# Altium schematic symbol library SSW-116-01-L-S.SchLib: 1 symbol
Pins are listed as number, name and electrical type; pins without a type are passive.

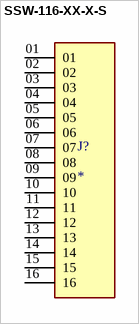
[diagram p0: symbol SSW-116-XX-X-S]

## SSW-116-XX-X-S
designator J?
MP: SSW-116-XX-X-S; MF: {'manufacturer': u'Samtec'}; Value: *; Package: None; Price: None; Availability: Unavailable
footprint SAMTEC_SSW-116-XX-X-S
pins: 01, 02, 03, 04, 05, 06, 07, 08, 09, 10, 11, 12, 13, 14, 15, 16